# Altium footprint library CH376EVT.PcbLib: 13 footprints
Each footprint in its own frame and in the unit in brackets; x right, y up, seen from the top. Pads: shape width x height; smd on the part's side, far side on the other; paste and mask are expansions set on the pad; w line width, h text height; cw(c..) or ccw(c..) is an arc to the next point about the centre after c.
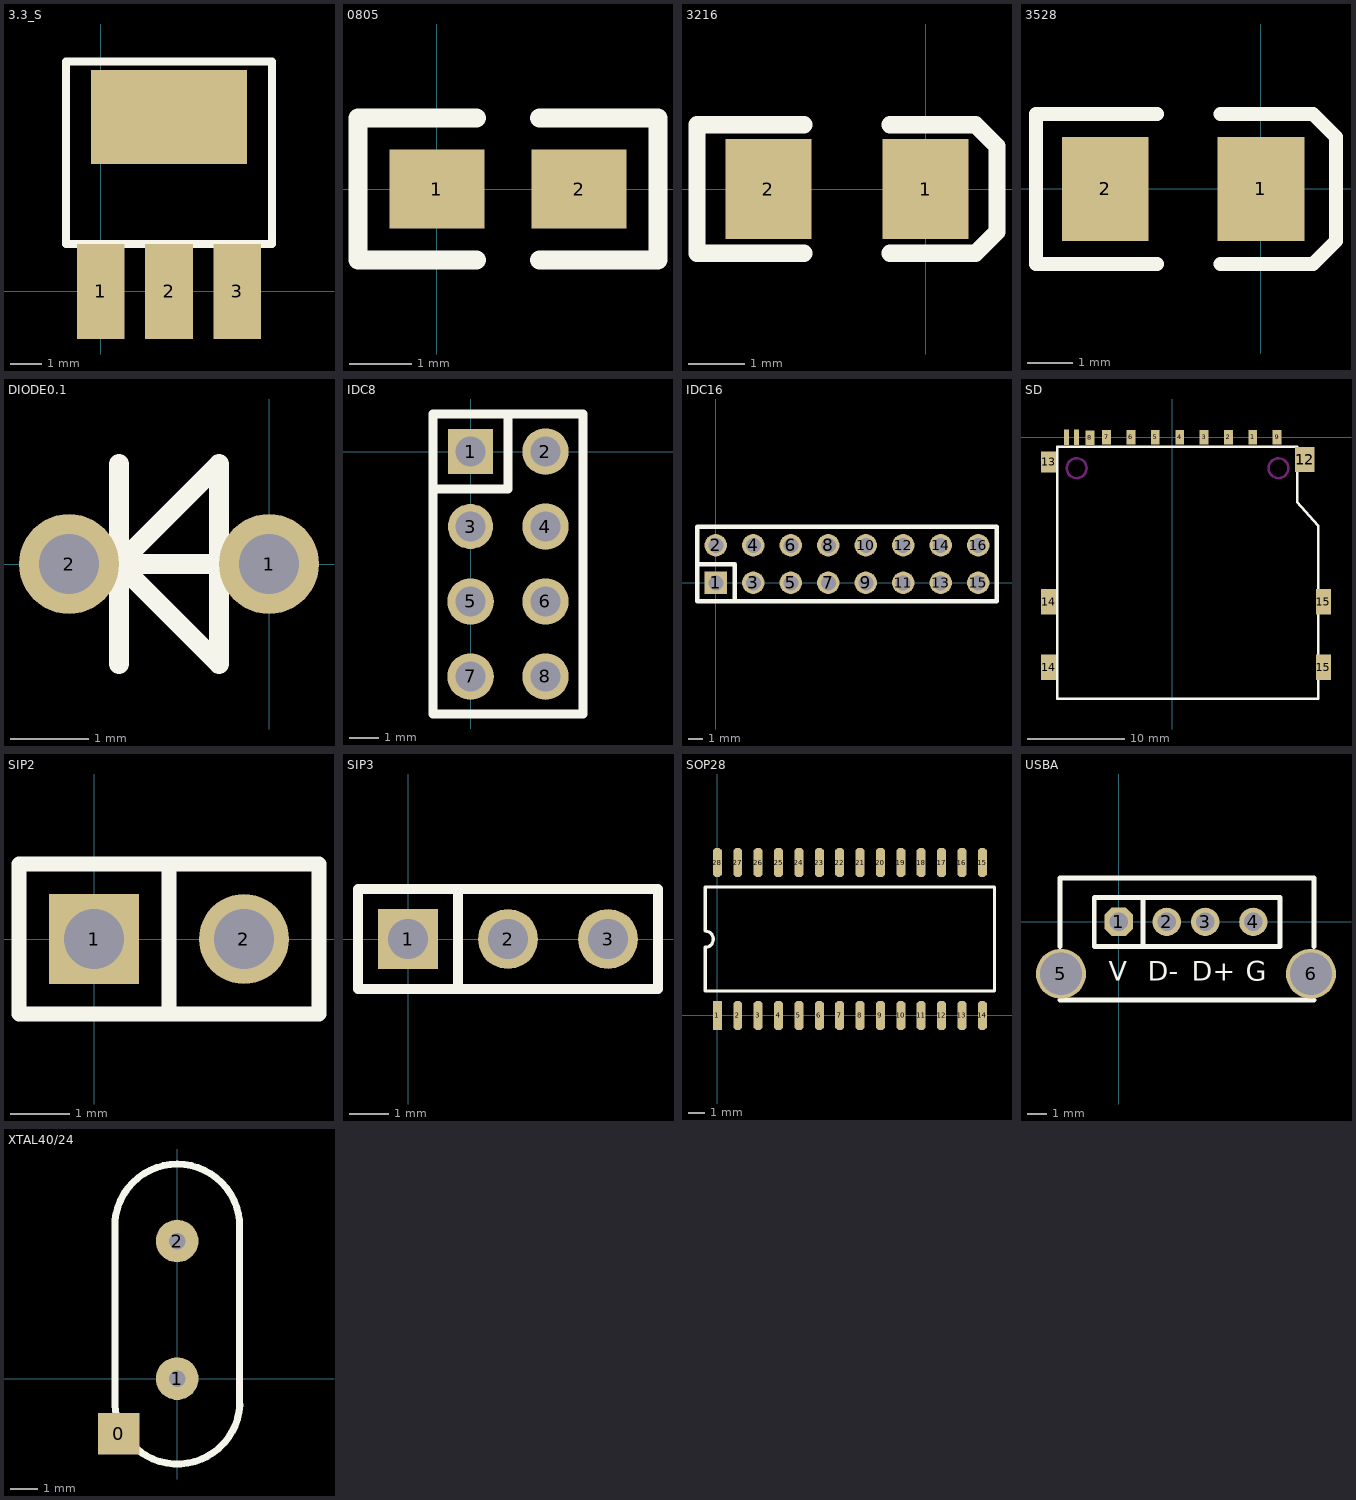
[diagram p0: the footprints below, top view; thin cyan lines are the x and y axes]

## 3.3_S [mil]
pads (4):
  rect 60x120 smd: 1(0,0) 2(86,0) 3(172,0)
  rect 196.85x118.11 smd: ""(86,220)
Top Overlay:
  lines w10: -44,60 -44,290 216,290 216,60 -44,60

## 0805 [mil]
pads (2):
  rect 60x50 smd: 1(0,0) 2(90,0)
Top Overlay:
  lines w12: 25,-45 -50,-45 -50,45 25,45 ; 65,-45 140,-45 140,45 65,45

## 3216 [mil]
pads (2):
  rect 60x70 smd: 1(0,0) 2(-110,0)
Top Overlay:
  lines w12: -85,-45 -160,-45 -160,45 -85,45 ; -25,-45 35,-45 50,-30 50,30 35,45 -25,45

## 3528 [mil]
pads (2):
  rect 75x90 smd: 1(0,0) 2(-135,0)
Top Overlay:
  lines w12: -90,-65 -195,-65 -195,65 -90,65 ; -35,-65 45,-65 65,-45 65,45 45,65 -35,65

## DIODE0.1 [mil]
pads (2):
  round 50 hole 30: 1(0,0) 2(-100,0)
Top Overlay:
  lines w10: -100,0 0,0 ; -75,-50 -75,50 ; -75,0 -25,-50 -25,50 -75,0

## IDC8 [mil]
pads (8):
  rect 60x60 hole 40: 1(0,0)
  round 62 hole 40: 2(100,0) 4(100,-100) 5(0,-200) 6(100,-200) 7(0,-300) 8(100,-300)
  round 60 hole 40: 3(0,-100)
Top Overlay:
  lines w12: -50,-50 50,-50 50,50 ; -50,-350 -50,50 150,50 150,-350 -50,-350

## IDC16 [mil]
pads (16):
  rect 60x60 hole 40: 1(0,0)
  round 60 hole 40: 2(0,100) 3(100,0) 4(100,100) 5(200,0) 6(200,100) 7(300,0) 8(300,100) 9(400,0) 10(400,100) 11(500,0) 12(500,100) 13(600,0) 14(600,100) 15(700,0) 16(700,100)
Top Overlay:
  lines w12: -50,50 50,50 50,-50 ; -50,-50 -50,150 750,150 750,-50 -50,-50

## SD [mm]
pads (17):
  rect 0.9x1.5 smd: 1(8.25,0) 2(5.75,0) 3(3.25,0) 4(0.75,0) 5(-1.75,0) 6(-4.25,0) 7(-6.75,0) 8(-8.458,-0.051) 9(10.75,0)
  rect 0.5x1.6 smd: 10(-9.852,0) 11(-10.852,0)
  rect 2x2.6 smd: 12(13.589,-2.286)
  rect 1.524x2.159 smd: 13(-12.7,-2.54)
  rect 1.524x2.6 smd: 14(-12.7,-23.622) 14(-12.7,-16.891) 15(15.494,-23.622) 15(15.494,-16.891)
Top Overlay:
  lines w0.254: 12.802,-0.965 12.802,-6.655 14.961,-9.068 14.961,-26.822 -11.836,-26.822 -11.831,-0.965 12.807,-0.965
Keep-Out Layer:
  circle w0.254: c10.892,-3.175 r1.016
  circle w0.254: c-9.83,-3.175 r1.016

## SIP2 [mil]
pads (2):
  rect 60x60 hole 40: 1(0,0)
  round 60 hole 40: 2(100,0)
Top Overlay:
  lines w10: 50,-50 50,50 ; -50,-50 -50,50 150,50 150,-50 -50,-50

## SIP3 [mil]
pads (3):
  rect 60x60 hole 40: 1(0,0)
  round 60 hole 40: 2(100,0) 3(200,0)
Top Overlay:
  lines w10: 50,-50 50,50 ; -50,-50 250,-50 250,50 -50,50 -50,-50

## SOP28 [mil]
pads (28):
  rect 22x72 smd: 1(0,0)
  oct 22x72 smd: 2(50,0) 3(100,0) 4(150,0) 5(200,0) 6(250,0) 7(300,0) 8(350,0) 9(400,0) 10(450,0) 11(500,0) 12(550,0) 13(600,0) 14(650,0) 15(650,375) 16(600,375) 17(550,375) 18(500,375) 19(450,375) 20(400,375) 21(350,375) 22(300,375) 23(250,375) 24(200,375) 25(150,375) 26(100,375) 27(50,375) 28(0,375)
Top Overlay:
  lines w8: -30,60 -30,167 ccw(c-30,187) -30,207 -30,315 680,315 680,60 -30,60

## USBA [mm]
pads (6):
  oct 1.473x1.473 hole 0.965: 1(0,0)
  round 1.473 hole 0.965: 2(2.5,0) 3(4.5,0) 4(7,0)
  round 2.6 hole 2.2: 5(-3,-2.7) 6(10,-2.7)
Top Overlay:
  lines w0.254: -3.048,-4.064 10.16,-4.064 ; -3.048,-1.27 -3.048,2.286 10.16,2.286 10.16,-1.27 ; 1.27,-1.27 1.27,1.27 ; -1.27,-1.27 8.382,-1.27 8.382,1.27 -1.27,1.27 -1.27,-1.27
  text "D-" at 1.524,-3.048 h1.02
  text "D+" at 3.81,-3.048 h1.02
  text "V" at -0.508,-3.048 h1.02
  text "G" at 6.604,-3.048 h1.02

## XTAL40/24 [mil]
pads (3):
  rect 60x60 smd: 0(-85,-80)
  round 62 hole 24: 1(0,0) 2(0,200)
Top Overlay:
  lines w10: -90.55,229.92 -90.55,-37.8 ccw(c0.33,-33.12) 91.19,-38.04 ; -90.25,229.97 cw(c0.15,221.22) 90.55,229.92 90.55,-38